# EAGLE library part TLV5614 (library magic-camper-node)
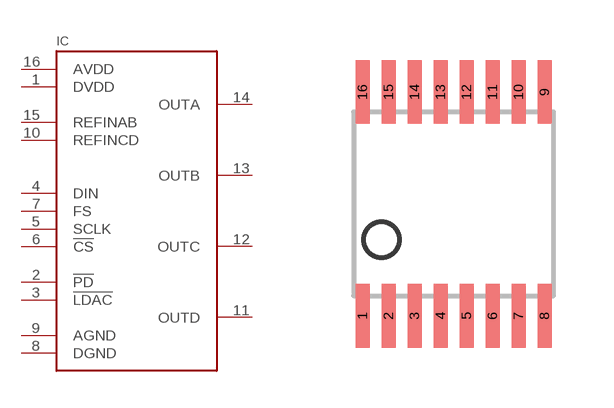
[diagram p1: symbol with the pads of SO-16; footprint SO-16]

Designator prefix IC

## TLV5614 (PARTNO: TLV5614IPWR)  [SO-16]
1  DVDD
2  !PD
3  !LDAC
4  DIN
5  SCLK
6  !CS
7  FS
8  DGND
9  AGND
10  REFINCD
11  OUTD
12  OUTC
13  OUTB
14  OUTA
15  REFINAB
16  AVDD

## Footprint SO-16 (pad centres in mm)
smd 0.35 x 1.6: 1 -2.275,-2.8; 2 -1.625,-2.8; 3 -0.975,-2.8; 4 -0.325,-2.8; 5 0.325,-2.8; 6 0.975,-2.8; 7 1.625,-2.8; 8 2.275,-2.8; 9 2.275,2.8; 10 1.625,2.8; 11 0.975,2.8; 12 0.325,2.8; 13 -0.325,2.8; 14 -0.975,2.8; 15 -1.625,2.8; 16 -2.275,2.8